# EAGLE library part SSM2603CPZ-REEL7 (library SSM2603CPZ-REEL7)
Low Power Audio Codec Source: Datasheet <https://componentsearchengine.com/Datasheets/2/SSM2603CPZ-REEL7.pdf>
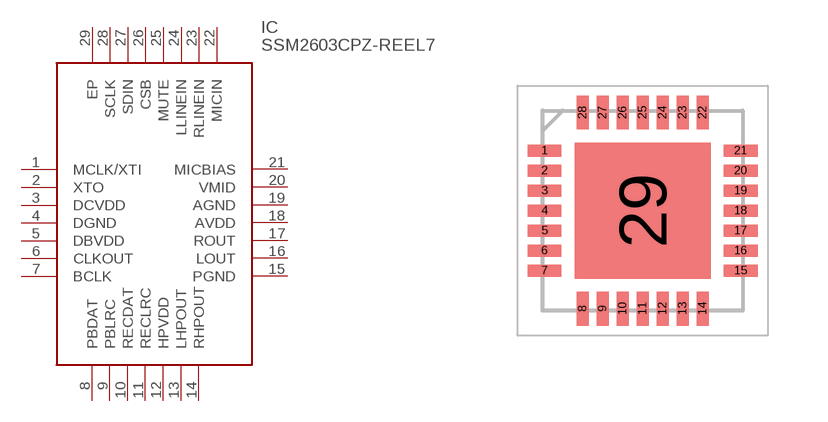
[diagram p0: symbol with the pads of QFN50P500X500X80-29N; footprint QFN50P500X500X80-29N]

Designator prefix IC

## SSM2603CPZ-REEL7 (Arrow_Part_Number: SSM2603CPZ-REEL7; Arrow_Price-Stock: https://www.arrow.com/en/products/ssm2603cpz-reel7/analog-devices; Description: Low Power Audio Codec; Height: 0.8mm; Manufacturer_Name: Analog Devices; Manufacturer_Part_Number: SSM2603CPZ-REEL7; Mouser_Part_Number: 584-SSM2603CPZ-R7; Mouser_Price-Stock: https://www.mouser.co.uk/ProductDetail/Analog-Devices/SSM2603CPZ-REEL7?qs=WIvQP4zGangXbW6vE18nlQ%3D%3D)  [QFN50P500X500X80-29N]
1  MCLK/XTI
2  XTO
3  DCVDD
4  DGND
5  DBVDD
6  CLKOUT
7  BCLK
8  PBDAT
9  PBLRC
10  RECDAT
11  RECLRC
12  HPVDD
13  LHPOUT
14  RHPOUT
15  PGND
16  LOUT
17  ROUT
18  AVDD
19  AGND
20  VMID
21  MICBIAS
22  MICIN
23  RLINEIN
24  LLINEIN
25  MUTE
26  CSB
27  SDIN
28  SCLK
29  EP

## Footprint QFN50P500X500X80-29N (pad centres in mm)
28-Lead Lead Frame Chip Scale Package [LFCSP_WQ]
smd 0.85 x 0.3: 1 -2.45,1.5; 2 -2.45,1; 3 -2.45,0.5; 4 -2.45,0; 5 -2.45,-0.5; 6 -2.45,-1; 7 -2.45,-1.5; 15 2.45,-1.5; 16 2.45,-1; 17 2.45,-0.5; 18 2.45,0; 19 2.45,0.5; 20 2.45,1; 21 2.45,1.5
smd 0.3 x 0.85: 8 -1.5,-2.45; 9 -1,-2.45; 10 -0.5,-2.45; 11 0,-2.45; 12 0.5,-2.45; 13 1,-2.45; 14 1.5,-2.45; 22 1.5,2.45; 23 1,2.45; 24 0.5,2.45; 25 0,2.45; 26 -0.5,2.45; 27 -1,2.45; 28 -1.5,2.45
smd 3.4 x 3.4: 29 0,0